# Altium schematic symbol library ADC_DAC.SchLib: 3 symbols
Pins are listed as number, name and electrical type; pins without a type are passive.

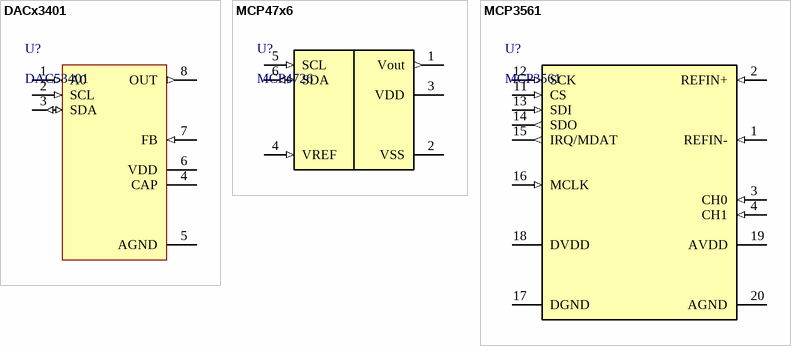
[diagram p0: symbols DACx3401 to MCP3561]

## DACx3401
designator U?, comment DAC53401
footprint SON50P200X200X60-9N
pins: 1 A0 (in), 2 SCL (in), 3 SDA (io), 4 CAP (power), 5 AGND (power), 6 VDD (power), 7 FB (in), 8 OUT (out)

## MCP47x6
designator U?, comment MCP4726
DAC
footprint SOT23-6
pins: 1 Vout (out), 2 VSS (power), 3 VDD (power), 4 VREF (in), 5 SCL (in), 6 SDA (io)

## MCP3561
designator U?
24 bit ADC
footprint QFN-20(3x3)
pins: 1 REFIN- (in), 2 REFIN+ (in), 3 CH0 (in), 4 CH1 (in), 11 CS (in), 12 SCK (in), 13 SDI (in), 14 SDO (out), 15 IRQ/MDAT (out), 16 MCLK (in), 17 DGND (power), 18 DVDD (power), 19 AVDD (power), 20 AGND (power)